# EAGLE library part MMA8452QR1 (library Sensor)
ACCELEROMETER 2-8G I2C 16QFN Manufacturer's datasheet <http://cache.freescale.com/files/sensors/doc/data_sheet/MMA8452Q.pdf>
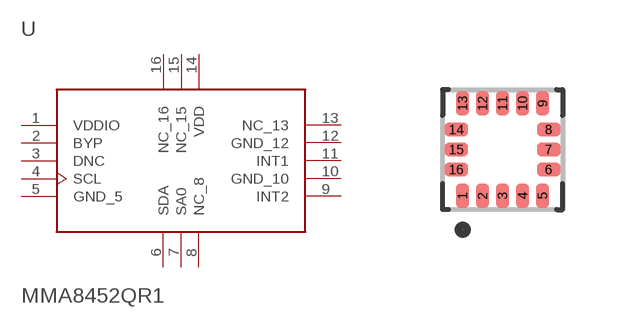
[diagram p22: symbol with the pads of 16-VFQFN; footprint 16-VFQFN]

Designator prefix U

## MMA8452QR1 (CREATED_BY: PCBLayout.com; DIGIKEY_PART_NUMBER: MMA8452QR1CT-ND; MANUFACTURER: NXP USA Inc.; MPN: MMA8452QR1; PACKAGE: 16-VFQFN)  [16-VFQFN]
1  VDDIO  pwr
2  BYP  pas
3  DNC  pas
4  SCL
5  GND_5  pwr
6  SDA
7  SA0
8  NC_8  pas
9  INT2  out
10  GND_10  pwr
11  INT1  out
12  GND_12  pwr
13  NC_13  pas
14  VDD  pwr
15  NC_15  pas
16  NC_16  pas

## Footprint 16-VFQFN (pad centres in mm)
Pullback Quad Flat No-Lead (PQFN), 0.50 mm pitch; square, 5 pin X 3 pin, 3.00 mm L X 3.00 mm W X 1.00 mm H body PCB Libraries Packages
smd 0.34 x 0.6: 1 -1,-1.155; 2 -0.5,-1.155; 3 0,-1.155; 4 0.5,-1.155; 5 1,-1.155; 9 1,1.155; 10 0.5,1.155; 11 0,1.155; 12 -0.5,1.155; 13 -1,1.155
smd 0.6 x 0.34: 6 1.155,-0.5; 7 1.155,0; 8 1.155,0.5; 14 -1.155,0.5; 15 -1.155,0; 16 -1.155,-0.5